# Altium footprint library DI_DO-214AA.PcbLib: 1 footprints
Each footprint in its own frame and in the unit in brackets; x right, y up, seen from the top. Pads: shape width x height; smd on the part's side, far side on the other; paste and mask are expansions set on the pad; w line width, h text height; cw(c..) or ccw(c..) is an arc to the next point about the centre after c.
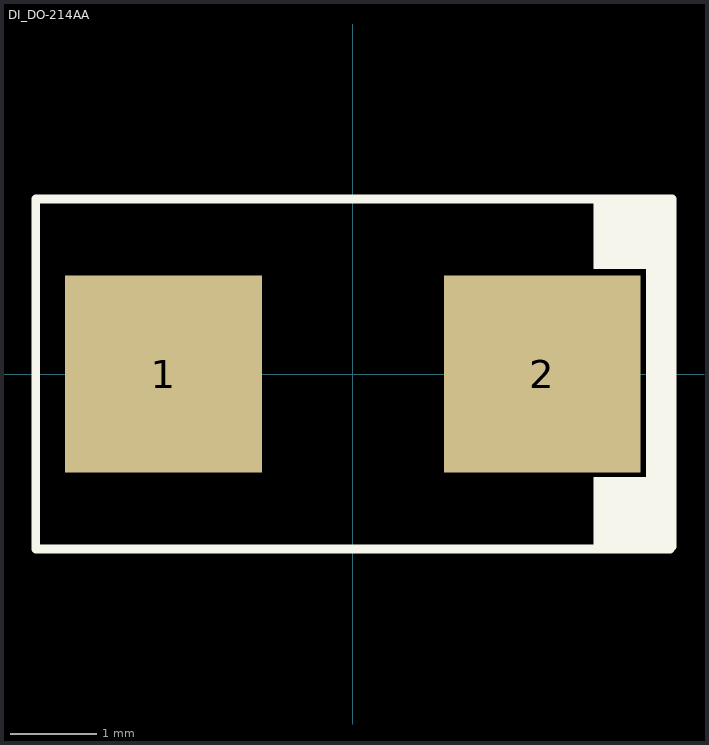
[diagram p0: the footprint, top view; thin cyan lines are the x and y axes]

## DI_DO-214AA [mil]
pads (2):
  rect 90x90 smd: 1(-86.61,0) 2(86.61,0)
Top Overlay:
  rectangle: 110,48 146,80
  rectangle: 110,-79 145,-47
  rectangle: 134,-51 145,48
  lines w4: 145,-80 -145,-80 -145,80 145,80 ; 146,-79 146,80
3D body: height 90.75, standoff 0, extent -106.29,-70.87 106.3,70.87